# Altium schematic symbol library FDS3692.Schlib: 1 symbol
Pins are listed as number, name and electrical type; pins without a type are passive.

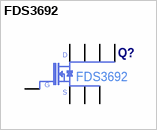
[diagram p0: symbol FDS3692]

## FDS3692
designator Q?
Manufacturer Part Number: FDS3692
pins: 1 S, 2 S, 3 S, 4 G, 5 D, 6 D, 7 D, 8 D